# Altium integrated library Maxim Converter Analog to Digital.IntLib: 88 symbols (part 3 of 3)
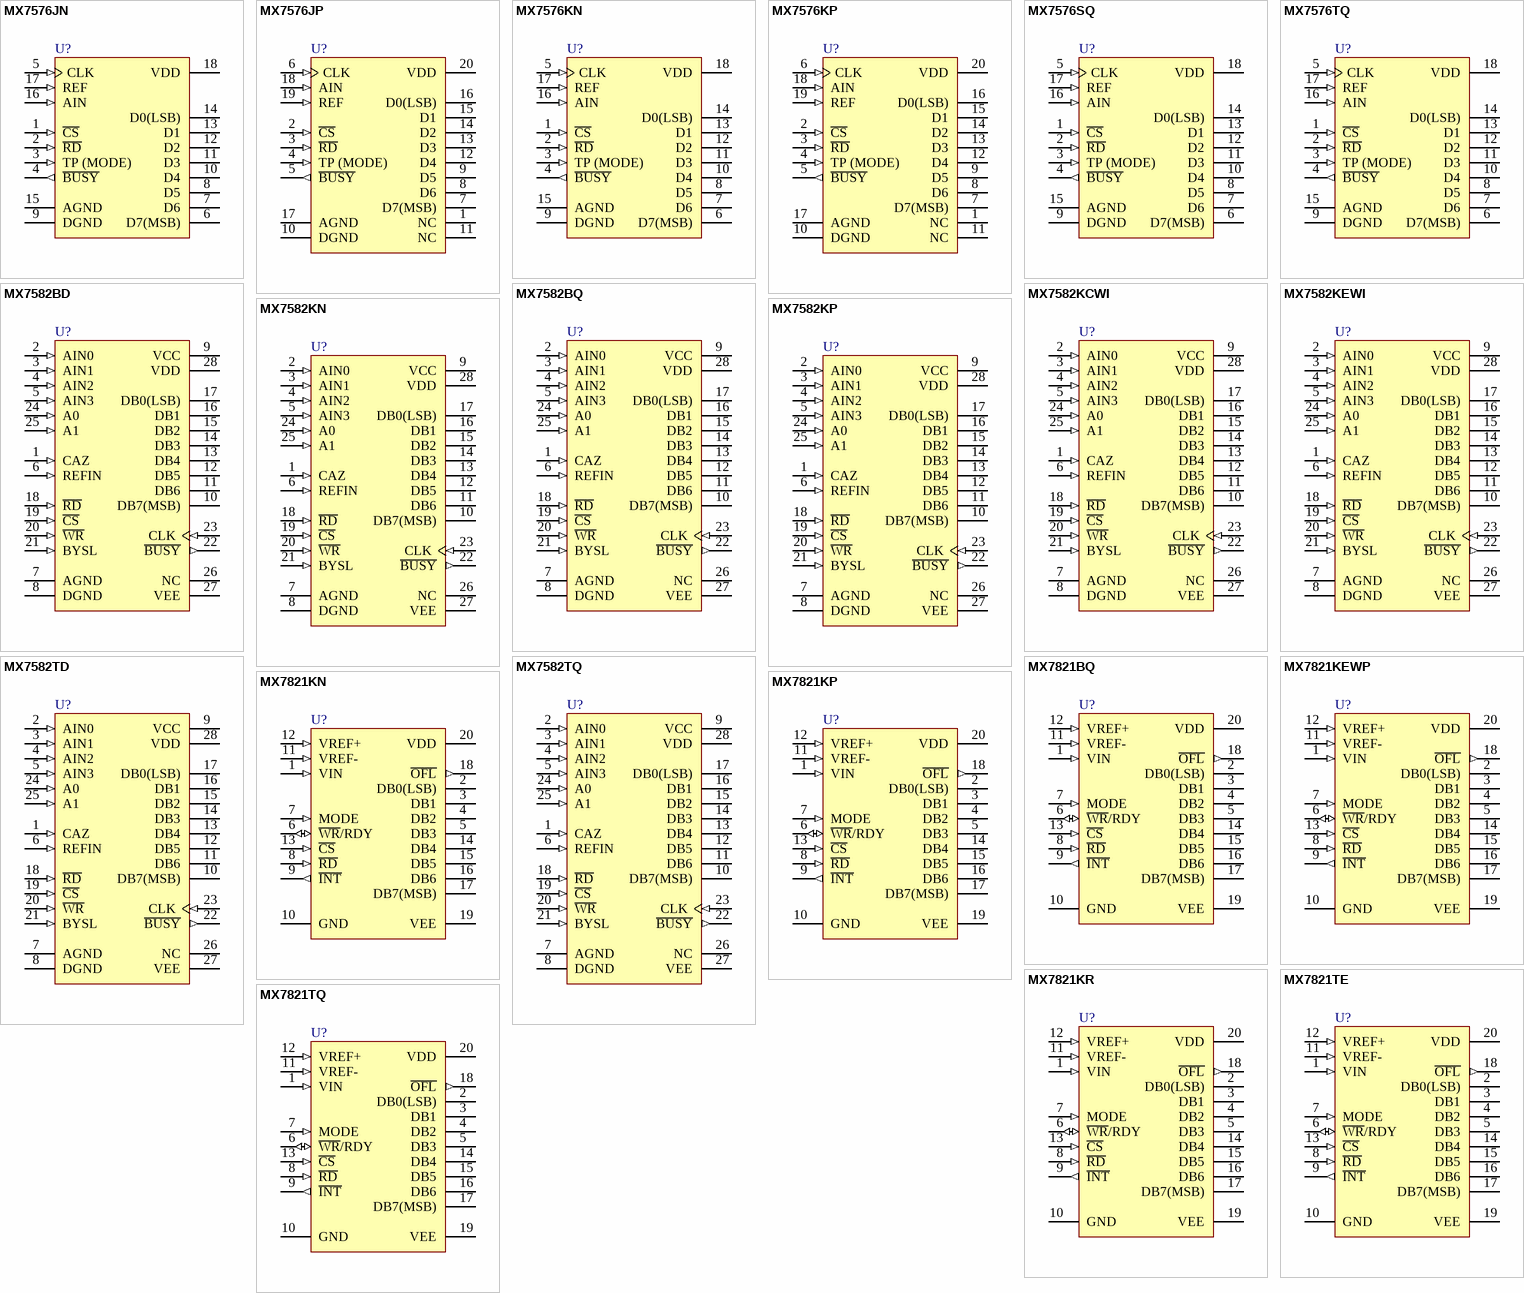
[diagram p5: symbols MX7576JN to MX7821TQ]

## MX7821TE
designator U?
660ns µP-Compatible, 8-Bit ADC with Track/Hold; Published: 16-Jan-2001; LatestRevisionDate: 17-Jul-2002; LatestRevisionNote: Re-released for DXP Platform.; DatasheetVersion: Jul-1995; PackageReference: LCC20; Publisher: Altium Limited; PackageDescription: Leadless Chip Carrier; 20 Terminals; Body 8.9 x 8.9 mm; ComponentLink1Description: Manufacturer Link; ComponentLink1URL: http://www.maxim-ic.com/; ComponentLink2Description: Datasheet; ComponentLink2URL: http://pdfserv.maxim-ic.com/en/ds/MX7821.pdf
footprint LCC20 (Leadless Chip Carrier; 20 Terminals; Body 8.9 x 8.9 mm)
footprint LCC20_N (Leadless Chip Carrier, 20-Leads, Body 8.9x8.9mm, Pitch 1.27mm, IPC Medium Density)
footprint LCC20_L (Leadless Chip Carrier, 20-Leads, Body 8.9x8.9mm, Pitch 1.27mm, IPC High Density)
footprint LCC20_M (Leadless Chip Carrier, 20-Leads, Body 8.9x8.9mm, Pitch 1.27mm, IPC Low Density)
pins: 1 VIN (in), 2 DB0(LSB) (hiz), 3 DB1 (hiz), 4 DB2 (hiz), 5 DB3 (hiz), 6 ~{WR}/RDY (io), 7 MODE (in), 8 ~{RD} (in), 9 ~{INT} (out), 10 GND (power), 11 VREF- (in), 12 VREF+ (in), 13 ~{CS} (in), 14 DB4 (hiz), 15 DB5 (hiz), 16 DB6 (hiz), 17 DB7(MSB) (hiz), 18 ~{OFL} (out), 19 VEE (power), 20 VDD (power)

## MX7821TQ
designator U?
660ns µP-Compatible, 8-Bit ADC with Track/Hold; Published: 16-Jan-2001; LatestRevisionDate: 29-May-2009; LatestRevisionNote: Component Body Added.; DatasheetVersion: Jul-1995; PackageVersion: 1996; PackageReference: JP20; Publisher: Altium Limited; PackageDescription: DIP, 20-Pin, Row Spacing 7.62 mm, Pitch 2.54 mm; Code_JEDEC: MS-001-AD; ComponentLink1Description: Manufacturer Link; ComponentLink1URL: http://www.maxim-ic.com/; ComponentLink2Description: Datasheet; ComponentLink2URL: http://pdfserv.maxim-ic.com/en/ds/MX7821.pdf
footprint JP20 (DIP, 20-Leads, Row Spacing 7.62mm, Pitch 2.54mm, Body 25.91x6.73mm)
3D model PP20 (DIP, 20-Pin, Row Spacing 7.62 mm, Pitch 2.54 mm)
pins: 1 VIN (in), 2 DB0(LSB) (hiz), 3 DB1 (hiz), 4 DB2 (hiz), 5 DB3 (hiz), 6 ~{WR}/RDY (io), 7 MODE (in), 8 ~{RD} (in), 9 ~{INT} (out), 10 GND (power), 11 VREF- (in), 12 VREF+ (in), 13 ~{CS} (in), 14 DB4 (hiz), 15 DB5 (hiz), 16 DB6 (hiz), 17 DB7(MSB) (hiz), 18 ~{OFL} (out), 19 VEE (power), 20 VDD (power)